# Altium schematic symbol library eUSR_SchLibrary - Amplifiers.SchLib: 5 symbols
Pins are listed as number, name and electrical type; pins without a type are passive.

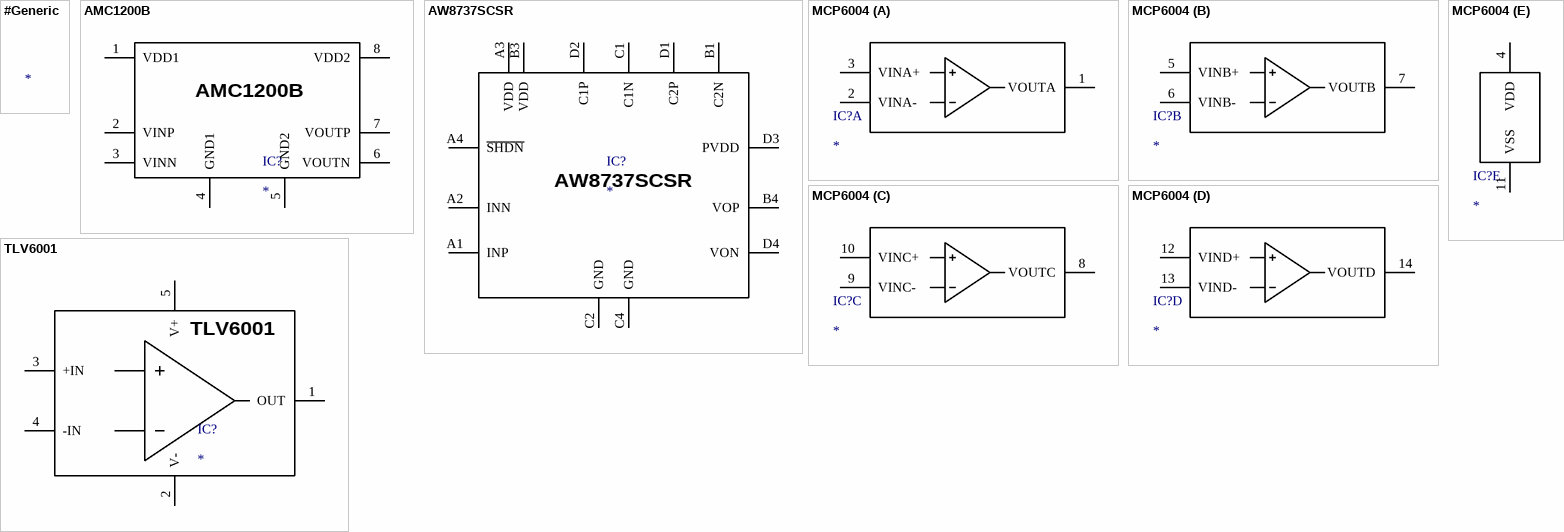
[diagram p0: symbols #Generic to TLV6001]

## #Generic
designator ?
Manufacturing: #####; Value: #####; Package: #####; Price: #####; PN: #####; ComponentLink1Description: Datasheet; ComponentLink1URL: #####; ComponentLink2Description: Distributor Link; ComponentLink2URL: #####; Distributor: #####; Distributor PN: #####

## AMC1200B
designator IC?
pins: 1 VDD1, 2 VINP, 3 VINN, 4 GND1, 5 GND2, 6 VOUTN, 7 VOUTP, 8 VDD2

## AW8737SCSR
designator IC?
pins: A1 INP, A2 INN, A3 VDD, A4 ~{SHDN}, B1 C2N, B3 VDD, B4 VOP, C1 C1N, C2 GND, C4 GND, D1 C2P, D2 C1P, D3 PVDD, D4 VON

## MCP6004
designator IC?
ComponentLink1Description: Datasheet; ComponentLink1URL: *; ComponentLink2Description: Distributor Link; ComponentLink2URL: *
part A pins: 1 VOUTA, 2 VINA-, 3 VINA+
part B pins: 5 VINB+, 6 VINB-, 7 VOUTB
part C pins: 8 VOUTC, 9 VINC-, 10 VINC+
part D pins: 12 VIND+, 13 VIND-, 14 VOUTD
part E pins: 4 VDD, 11 VSS

## TLV6001
designator IC?
pins: 1 OUT, 2 V-, 3 +IN, 4 -IN, 5 V+